# Altium schematic symbol library PCB-JUMPER.SchLib: 1 symbol
Pins are listed as number, name and electrical type; pins without a type are passive.

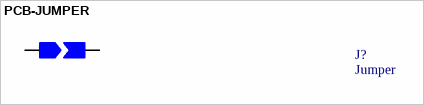
[diagram p0: symbol PCB-JUMPER]

## PCB-JUMPER
designator J?, comment Jumper  (no BOM)
pins: 1, 2